# EAGLE library part AS5304-6 (library fablab)
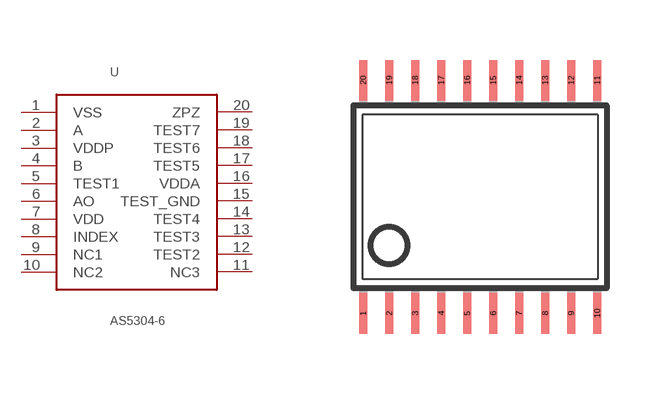
[diagram p23: symbol with the pads of TSSOP20-08THIN; footprint TSSOP20-08THIN]

Designator prefix -

## AS5304-6  [TSSOP20-08THIN]
1  VSS
2  A
3  VDDP
4  B
5  TEST1
6  AO
7  VDD
8  INDEX
9  NC1
10  NC2
11  NC3
12  TEST2
13  TEST3
14  TEST4
15  TEST_GND
16  VDDA
17  TEST5
18  TEST6
19  TEST7
20  ZPZ

## Footprint TSSOP20-08THIN (pad centres in mm)
Thin Shrink Small Outline Plastic 20 MAX3223-MAX3243.pdf
smd 0.203 x 1.016: 1 -2.925,-2.918; 2 -2.275,-2.918; 3 -1.625,-2.918; 4 -0.975,-2.918; 5 -0.325,-2.918; 6 0.325,-2.918; 7 0.975,-2.918; 8 1.625,-2.918; 9 2.275,-2.918; 10 2.925,-2.918; 11 2.925,2.918; 12 2.275,2.918; 13 1.625,2.918; 14 0.975,2.918; 15 0.325,2.918; 16 -0.325,2.918; 17 -0.975,2.918; 18 -1.625,2.918; 19 -2.275,2.918; 20 -2.925,2.918